# EAGLE library part 1X09 (library Jordi)
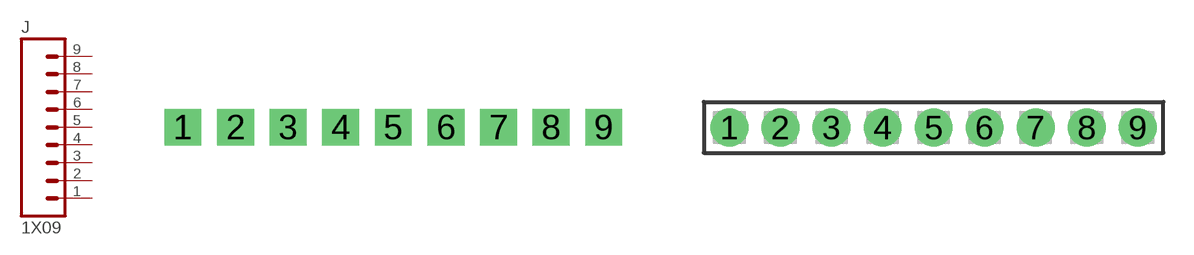
[diagram p36: symbol with the pads of CASTELLATION-09-0.1; footprints CASTELLATION-09-0.1, F-1X09-0.1-PTH]

Designator prefix J

## 1X09CAS-0.1  [CASTELLATION-09-0.1]
1  1  pas
2  2  pas
3  3  pas
4  4  pas
5  5  pas
6  6  pas
7  7  pas
8  8  pas
9  9  pas

## 1X09F-0.1-PTH  [F-1X09-0.1-PTH]
Pads as for CASTELLATION-09-0.1

## 1X09M-0.1-PTH  [M-1X09-0.1-PTH]
Pads as for CASTELLATION-09-0.1

## Footprint CASTELLATION-09-0.1 (pad centres in mm)
drill 1.016 pad 1.778 square: 1 -10.16,0; 2 -7.62,0; 3 -5.08,0; 4 -2.54,0; 5 0,0; 6 2.54,0; 7 5.08,0; 8 7.62,0; 9 10.16,0

## Footprint F-1X09-0.1-PTH (pad centres in mm)
drill 1.016 pad 1.88: 1 -10.16,0; 2 -7.62,0; 3 -5.08,0; 4 -2.54,0; 5 0,0; 6 2.54,0; 7 5.08,0; 8 7.62,0; 9 10.16,0

## Footprint M-1X09-0.1-PTH (pad centres in mm)
drill 1.016 pad 1.88: 1 -10.16,0; 2 -7.62,0; 3 -5.08,0; 4 -2.54,0; 5 0,0; 6 2.54,0; 7 5.08,0; 8 7.62,0; 9 10.16,0